# EAGLE library part P2T3 (library isb_buttons)
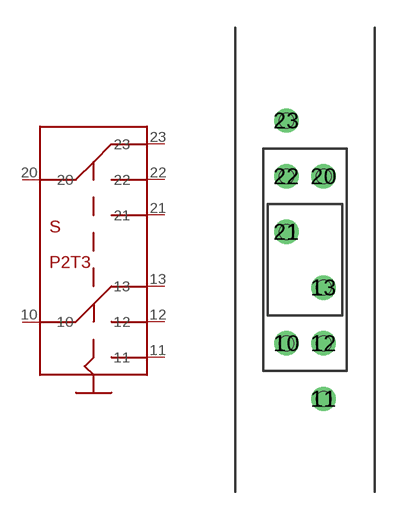
[diagram p0: symbol with the pads of 2P3T; footprint 2P3T]

Designator prefix S

## P2T3  [2P3T]
10  10
11  11
12  12
13  13
20  20
21  21
22  22
23  23

## Footprint 2P3T (pad centres in mm)
drill 0.8 round: 10 -1,-4.5; 11 1,-7.5; 12 1,-4.5; 13 1,-1.5; 20 1,4.5; 21 -1,1.5; 22 -1,4.5; 23 -1,7.5
hole 0.8 at 1,-7.5
hole 0.8 at 1,-4.5
hole 0.8 at -1,-4.5
hole 0.8 at 1,-1.5
hole 0.8 at -1,1.5
hole 0.8 at 1,4.5
hole 0.8 at -1,4.5
hole 0.8 at -1,7.5